# Altium schematic symbol library MF_Connectors.SCHLIB: 53 symbols
Pins are listed as number, name and electrical type; pins without a type are passive.

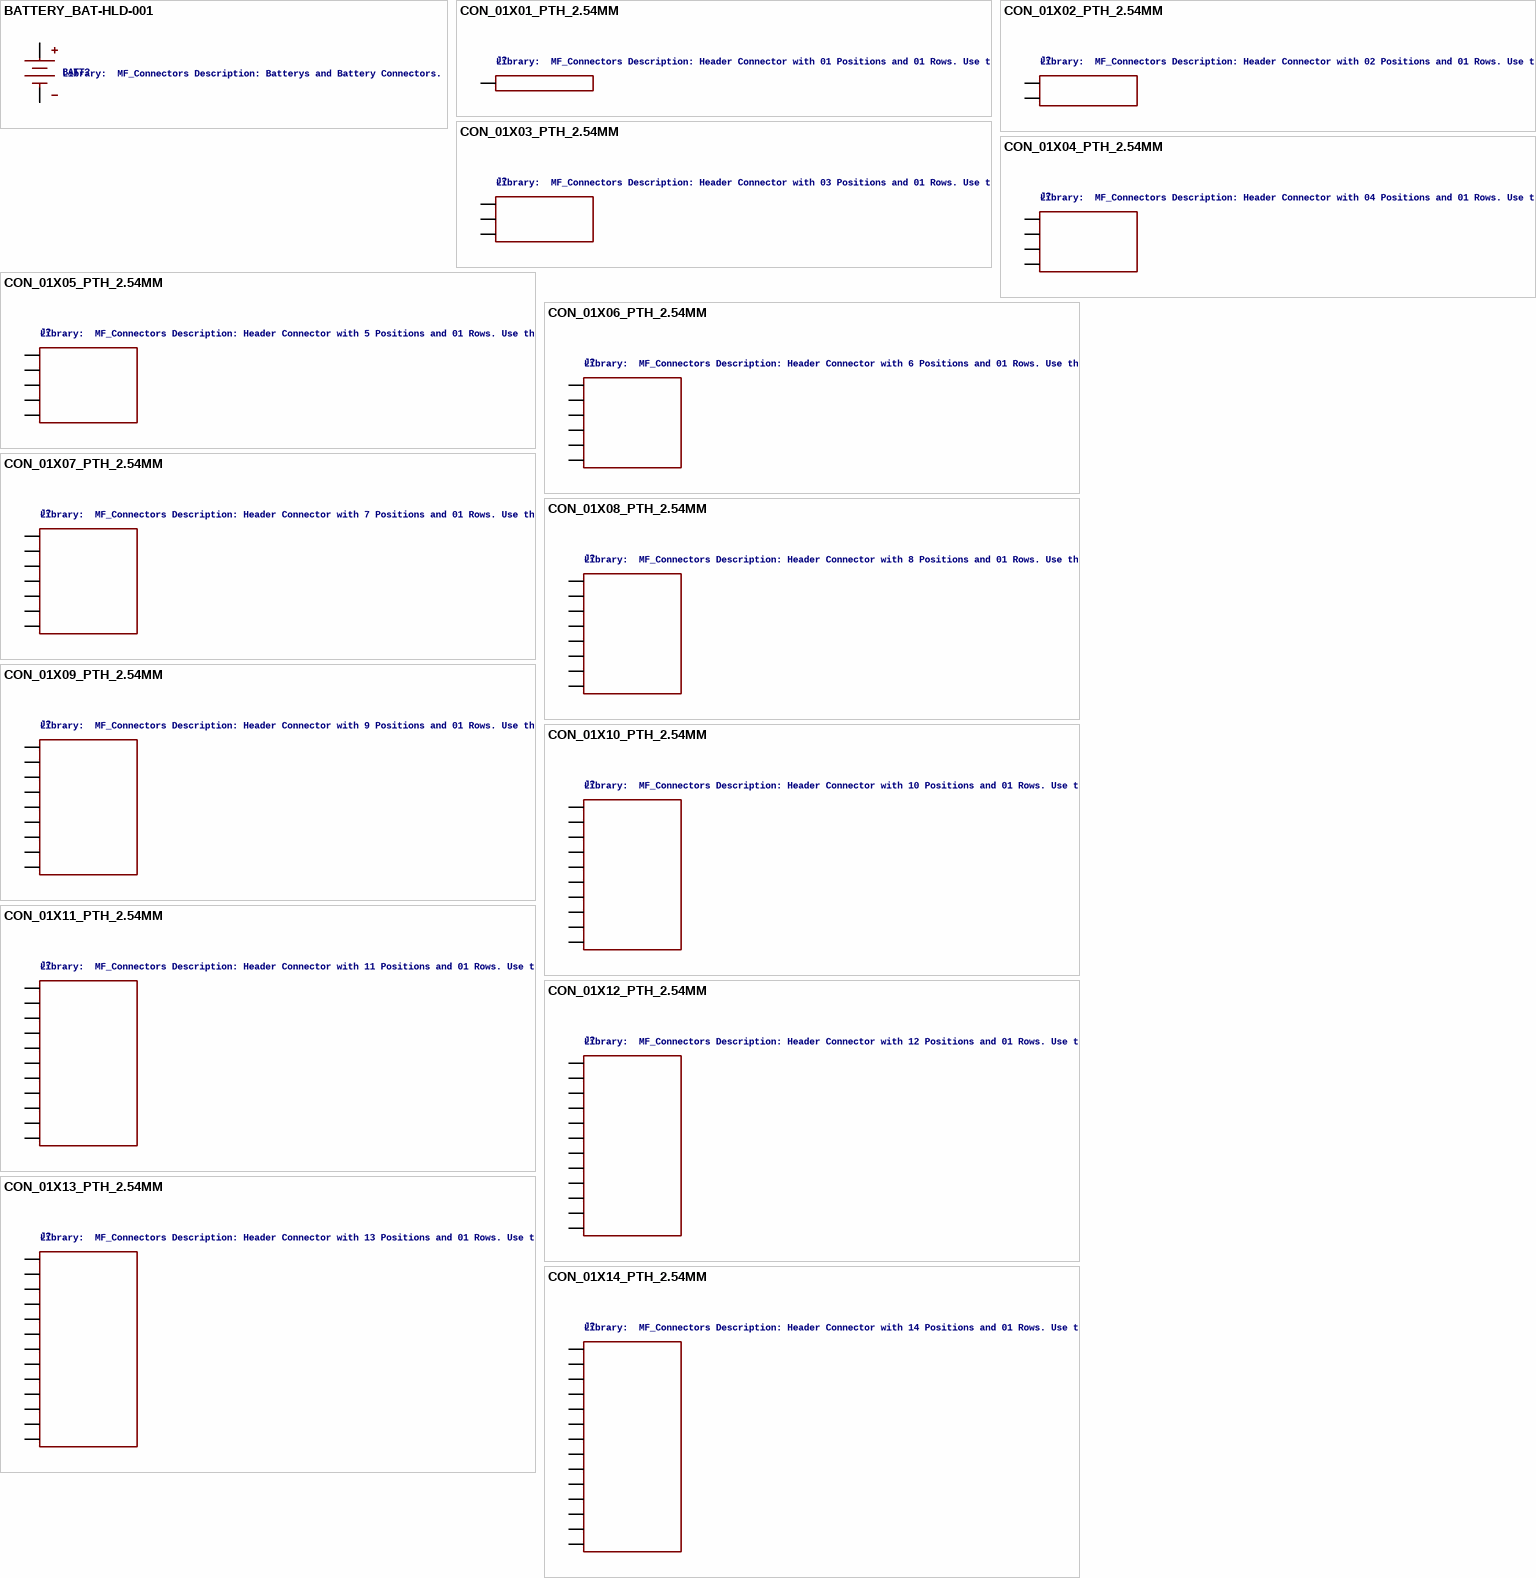
[diagram p0: symbols BATTERY_BAT-HLD-001 to CON_01X14_PTH_2.54MM]

## BATTERY_BAT-HLD-001
designator BATT?, comment Library:  MF_Connectors Description: Batterys and Battery Connectors.
HOUSEPART: NO; MPN: BAT-HLD-001; GateName_1: G$1; SymbolName_1: BATTERY_CONNECTION; DeviceName: _BAT-HLD-001; POPULATE: 1; LibraryName: MF_Connectors; DeviceSetName: BATTERY; URL: http://www.mouser.com/ds/2/238/bat-hld-001-220194.pdf
footprint BAT-HLD-001
pins: NEG_0 NEG, POS_0 POS_1 POS

## CON_01X01_PTH_2.54MM
designator J?, comment Library:  MF_Connectors Description: Header Connector with 01 Positions and 01 Rows. Use the LABEL Attribute to label the pin on the schematic and PCB. You can remove the attributes on the PCB by using the SMASH function on the part and then deleting the text.
HOUSEPART: YES; MPN: MF-CON-2.54mm-01x01; GateName_1: G$1; SymbolName_1: CON_01X01; DeviceName: _PTH_2.54MM; POPULATE: 1; LibraryName: MF_Connectors; DeviceSetName: CON_01X01; URL: https://factory.macrofab.com/part/MF-CON-2.54mm-01x01
footprint PTH_2.54MM_01X01
pins: P$1 PIN1

## CON_01X02_PTH_2.54MM
designator J?, comment Library:  MF_Connectors Description: Header Connector with 02 Positions and 01 Rows. Use the LABEL Attribute to label the pin on the schematic and PCB. You can remove the attributes on the PCB by using the SMASH function on the part and then deleting the text.
HOUSEPART: YES; MPN: MF-CON-2.54mm-01x02; GateName_1: G$1; SymbolName_1: CON_01X02; DeviceName: _PTH_2.54MM; POPULATE: 1; LibraryName: MF_Connectors; DeviceSetName: CON_01X02; URL: https://factory.macrofab.com/part/MF-CON-2.54mm-01x02
footprint PTH_2.54MM_01X02
pins: P$1 PIN1, P$2 PIN2

## CON_01X03_PTH_2.54MM
designator J?, comment Library:  MF_Connectors Description: Header Connector with 03 Positions and 01 Rows. Use the LABEL Attribute to label the pin on the schematic and PCB. You can remove the attributes on the PCB by using the SMASH function on the part and then deleting the text.
HOUSEPART: YES; MPN: MF-CON-2.54mm-01x03; GateName_1: G$1; SymbolName_1: CON_01X03; DeviceName: _PTH_2.54MM; POPULATE: 1; LibraryName: MF_Connectors; DeviceSetName: CON_01X03; URL: https://factory.macrofab.com/part/MF-CON-2.54mm-01x03
footprint PTH_2.54MM_01X03
pins: P$1 PIN1, P$2 PIN2, P$3 PIN3

## CON_01X04_PTH_2.54MM
designator J?, comment Library:  MF_Connectors Description: Header Connector with 04 Positions and 01 Rows. Use the LABEL Attribute to label the pin on the schematic and PCB. You can remove the attributes on the PCB by using the SMASH function on the part and then deleting the text.
HOUSEPART: YES; MPN: MF-CON-2.54mm-01x04; GateName_1: G$1; SymbolName_1: CON_01X04; DeviceName: _PTH_2.54MM; POPULATE: 1; LibraryName: MF_Connectors; DeviceSetName: CON_01X04; URL: https://factory.macrofab.com/part/MF-CON-2.54mm-01x04
footprint PTH_2.54MM_01X04
pins: P$1 PIN1, P$2 PIN2, P$3 PIN3, P$4 PIN4

## CON_01X05_PTH_2.54MM
designator J?, comment Library:  MF_Connectors Description: Header Connector with 5 Positions and 01 Rows. Use the LABEL Attribute to label the pin on the schematic and PCB. You can remove the attributes on the PCB by using the SMASH function on the part and then deleting the text.
HOUSEPART: YES; MPN: MF-CON-2.54mm-01x05; GateName_1: G$1; SymbolName_1: CON_01X05; DeviceName: _PTH_2.54MM; POPULATE: 1; LibraryName: MF_Connectors; DeviceSetName: CON_01X05; URL: https://factory.macrofab.com/part/MF-CON-2.54mm-01x05
footprint PTH_2.54MM_01X05
pins: P$1 PIN1, P$2 PIN2, P$3 PIN3, P$4 PIN4, P$5 PIN5

## CON_01X06_PTH_2.54MM
designator J?, comment Library:  MF_Connectors Description: Header Connector with 6 Positions and 01 Rows. Use the LABEL Attribute to label the pin on the schematic and PCB. You can remove the attributes on the PCB by using the SMASH function on the part and then deleting the text.
HOUSEPART: YES; MPN: MF-CON-2.54mm-01x06; GateName_1: G$1; SymbolName_1: CON_01X06; DeviceName: _PTH_2.54MM; POPULATE: 1; LibraryName: MF_Connectors; DeviceSetName: CON_01X06; URL: https://factory.macrofab.com/part/MF-CON-2.54mm-01x06
footprint PTH_2.54MM_01X06
pins: P$1 PIN1, P$2 PIN2, P$3 PIN3, P$4 PIN4, P$5 PIN5, P$6 PIN6

## CON_01X07_PTH_2.54MM
designator J?, comment Library:  MF_Connectors Description: Header Connector with 7 Positions and 01 Rows. Use the LABEL Attribute to label the pin on the schematic and PCB. You can remove the attributes on the PCB by using the SMASH function on the part and then deleting the text.
HOUSEPART: YES; MPN: MF-CON-2.54mm-01x07; GateName_1: G$1; SymbolName_1: CON_01X07; DeviceName: _PTH_2.54MM; POPULATE: 1; LibraryName: MF_Connectors; DeviceSetName: CON_01X07; URL: https://factory.macrofab.com/part/MF-CON-2.54mm-01x07
footprint PTH_2.54MM_01X07
pins: P$1 PIN1, P$2 PIN2, P$3 PIN3, P$4 PIN4, P$5 PIN5, P$6 PIN6, P$7 PIN7

## CON_01X08_PTH_2.54MM
designator J?, comment Library:  MF_Connectors Description: Header Connector with 8 Positions and 01 Rows. Use the LABEL Attribute to label the pin on the schematic and PCB. You can remove the attributes on the PCB by using the SMASH function on the part and then deleting the text.
HOUSEPART: YES; MPN: MF-CON-2.54mm-01x08; GateName_1: G$1; SymbolName_1: CON_01X08; DeviceName: _PTH_2.54MM; POPULATE: 1; LibraryName: MF_Connectors; DeviceSetName: CON_01X08; URL: https://factory.macrofab.com/part/MF-CON-2.54mm-01x08
footprint PTH_2.54MM_01X08
pins: P$1 PIN1, P$2 PIN2, P$3 PIN3, P$4 PIN4, P$5 PIN5, P$6 PIN6, P$7 PIN7, P$8 PIN8

## CON_01X09_PTH_2.54MM
designator J?, comment Library:  MF_Connectors Description: Header Connector with 9 Positions and 01 Rows. Use the LABEL Attribute to label the pin on the schematic and PCB. You can remove the attributes on the PCB by using the SMASH function on the part and then deleting the text.
HOUSEPART: YES; MPN: MF-CON-2.54mm-01x09; GateName_1: G$1; SymbolName_1: CON_01X09; DeviceName: _PTH_2.54MM; POPULATE: 1; LibraryName: MF_Connectors; DeviceSetName: CON_01X09; URL: https://factory.macrofab.com/part/MF-CON-2.54mm-01x09
footprint PTH_2.54MM_01X09
pins: P$1 PIN1, P$2 PIN2, P$3 PIN3, P$4 PIN4, P$5 PIN5, P$6 PIN6, P$7 PIN7, P$8 PIN8, P$9 PIN9

## CON_01X10_PTH_2.54MM
designator J?, comment Library:  MF_Connectors Description: Header Connector with 10 Positions and 01 Rows. Use the LABEL Attribute to label the pin on the schematic and PCB. You can remove the attributes on the PCB by using the SMASH function on the part and then deleting the text.
HOUSEPART: YES; MPN: MF-CON-2.54mm-01x10; GateName_1: G$1; SymbolName_1: CON_01X10; DeviceName: _PTH_2.54MM; POPULATE: 1; LibraryName: MF_Connectors; DeviceSetName: CON_01X10; URL: https://factory.macrofab.com/part/MF-CON-2.54mm-01x10
footprint PTH_2.54MM_01X10
pins: P$1 PIN1, P$2 PIN2, P$3 PIN3, P$4 PIN4, P$5 PIN5, P$6 PIN6, P$7 PIN7, P$8 PIN8, P$9 PIN9, P$10 PIN10

## CON_01X11_PTH_2.54MM
designator J?, comment Library:  MF_Connectors Description: Header Connector with 11 Positions and 01 Rows. Use the LABEL Attribute to label the pin on the schematic and PCB. You can remove the attributes on the PCB by using the SMASH function on the part and then deleting the text.
HOUSEPART: YES; MPN: MF-CON-2.54mm-01x11; GateName_1: G$1; SymbolName_1: CON_01X11; DeviceName: _PTH_2.54MM; POPULATE: 1; LibraryName: MF_Connectors; DeviceSetName: CON_01X11; URL: https://factory.macrofab.com/part/MF-CON-2.54mm-01x11
footprint PTH_2.54MM_01X11
pins: P$1 PIN1, P$2 PIN2, P$3 PIN3, P$4 PIN4, P$5 PIN5, P$6 PIN6, P$7 PIN7, P$8 PIN8, P$9 PIN9, P$10 PIN10, P$11 PIN11

## CON_01X12_PTH_2.54MM
designator J?, comment Library:  MF_Connectors Description: Header Connector with 12 Positions and 01 Rows. Use the LABEL Attribute to label the pin on the schematic and PCB. You can remove the attributes on the PCB by using the SMASH function on the part and then deleting the text.
HOUSEPART: YES; MPN: MF-CON-2.54mm-01x12; GateName_1: G$1; SymbolName_1: CON_01X12; DeviceName: _PTH_2.54MM; POPULATE: 1; LibraryName: MF_Connectors; DeviceSetName: CON_01X12; URL: https://factory.macrofab.com/part/MF-CON-2.54mm-01x12
footprint PTH_2.54MM_01X12
pins: P$1 PIN1, P$2 PIN2, P$3 PIN3, P$4 PIN4, P$5 PIN5, P$6 PIN6, P$7 PIN7, P$8 PIN8, P$9 PIN9, P$10 PIN10, P$11 PIN11, P$12 PIN12

## CON_01X13_PTH_2.54MM
designator J?, comment Library:  MF_Connectors Description: Header Connector with 13 Positions and 01 Rows. Use the LABEL Attribute to label the pin on the schematic and PCB. You can remove the attributes on the PCB by using the SMASH function on the part and then deleting the text.
HOUSEPART: YES; MPN: MF-CON-2.54mm-01x13; GateName_1: G$1; SymbolName_1: CON_01X13; DeviceName: _PTH_2.54MM; POPULATE: 1; LibraryName: MF_Connectors; DeviceSetName: CON_01X13; URL: https://factory.macrofab.com/part/MF-CON-2.54mm-01x13
footprint PTH_2.54MM_01X13
pins: P$1 PIN1, P$2 PIN2, P$3 PIN3, P$4 PIN4, P$5 PIN5, P$6 PIN6, P$7 PIN7, P$8 PIN8, P$9 PIN9, P$10 PIN10, P$11 PIN11, P$12 PIN12, P$13 PIN13

## CON_01X14_PTH_2.54MM
designator J?, comment Library:  MF_Connectors Description: Header Connector with 14 Positions and 01 Rows. Use the LABEL Attribute to label the pin on the schematic and PCB. You can remove the attributes on the PCB by using the SMASH function on the part and then deleting the text.
HOUSEPART: YES; MPN: MF-CON-2.54mm-01x14; GateName_1: G$1; SymbolName_1: CON_01X14; DeviceName: _PTH_2.54MM; POPULATE: 1; LibraryName: MF_Connectors; DeviceSetName: CON_01X14; URL: https://factory.macrofab.com/part/MF-CON-2.54mm-01x14
footprint PTH_2.54MM_01X14
pins: P$1 PIN1, P$2 PIN2, P$3 PIN3, P$4 PIN4, P$5 PIN5, P$6 PIN6, P$7 PIN7, P$8 PIN8, P$9 PIN9, P$10 PIN10, P$11 PIN11, P$12 PIN12, P$13 PIN13, P$14 PIN14

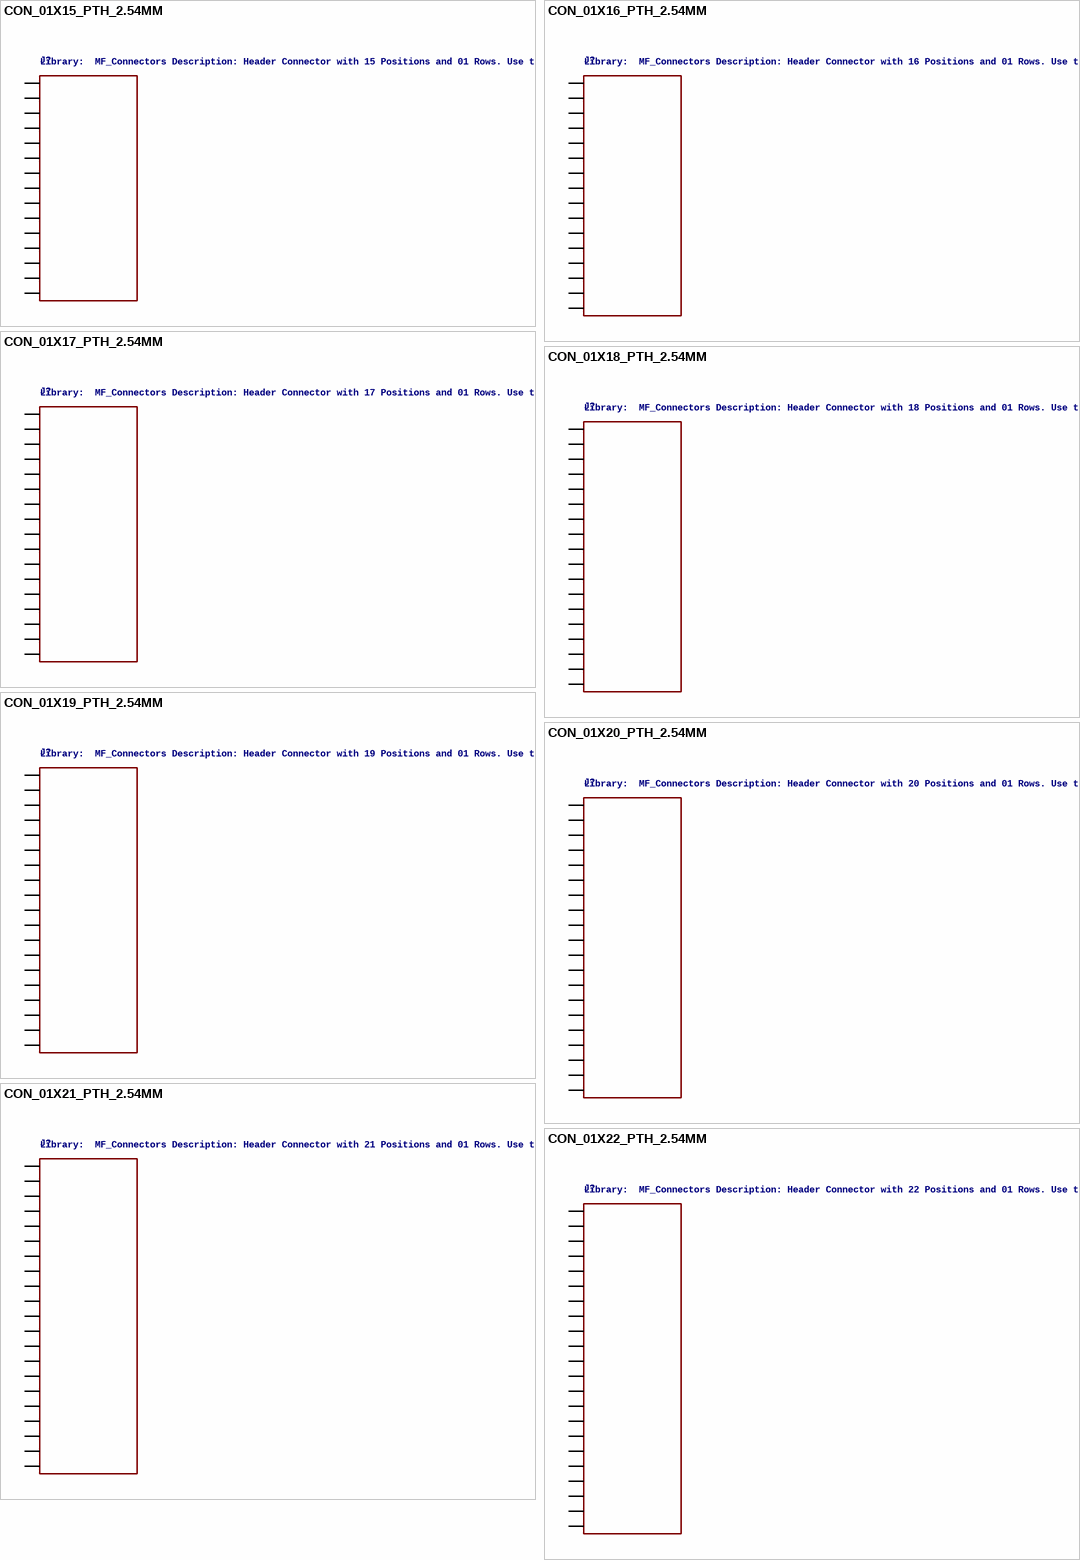
[diagram p1: symbols CON_01X15_PTH_2.54MM to CON_01X22_PTH_2.54MM]

## CON_01X15_PTH_2.54MM
designator J?, comment Library:  MF_Connectors Description: Header Connector with 15 Positions and 01 Rows. Use the LABEL Attribute to label the pin on the schematic and PCB. You can remove the attributes on the PCB by using the SMASH function on the part and then deleting the text.
HOUSEPART: YES; MPN: MF-CON-2.54mm-01x15; GateName_1: G$1; SymbolName_1: CON_01X15; DeviceName: _PTH_2.54MM; POPULATE: 1; LibraryName: MF_Connectors; DeviceSetName: CON_01X15; URL: https://factory.macrofab.com/part/MF-CON-2.54mm-01x15
footprint PTH_2.54MM_01X15
pins: P$1 PIN1, P$2 PIN2, P$3 PIN3, P$4 PIN4, P$5 PIN5, P$6 PIN6, P$7 PIN7, P$8 PIN8, P$9 PIN9, P$10 PIN10, P$11 PIN11, P$12 PIN12, P$13 PIN13, P$14 PIN14, P$15 PIN15

## CON_01X16_PTH_2.54MM
designator J?, comment Library:  MF_Connectors Description: Header Connector with 16 Positions and 01 Rows. Use the LABEL Attribute to label the pin on the schematic and PCB. You can remove the attributes on the PCB by using the SMASH function on the part and then deleting the text.
HOUSEPART: YES; MPN: MF-CON-2.54mm-01x16; GateName_1: G$1; SymbolName_1: CON_01X16; DeviceName: _PTH_2.54MM; POPULATE: 1; LibraryName: MF_Connectors; DeviceSetName: CON_01X16; URL: https://factory.macrofab.com/part/MF-CON-2.54mm-01x17
footprint PTH_2.54MM_01X16
pins: P$1 PIN1, P$2 PIN2, P$3 PIN3, P$4 PIN4, P$5 PIN5, P$6 PIN6, P$7 PIN7, P$8 PIN8, P$9 PIN9, P$10 PIN10, P$11 PIN11, P$12 PIN12, P$13 PIN13, P$14 PIN14, P$15 PIN15, P$16 PIN16

## CON_01X17_PTH_2.54MM
designator J?, comment Library:  MF_Connectors Description: Header Connector with 17 Positions and 01 Rows. Use the LABEL Attribute to label the pin on the schematic and PCB. You can remove the attributes on the PCB by using the SMASH function on the part and then deleting the text.
HOUSEPART: YES; MPN: MF-CON-2.54mm-01x17; GateName_1: G$1; SymbolName_1: CON_01X17; DeviceName: _PTH_2.54MM; POPULATE: 1; LibraryName: MF_Connectors; DeviceSetName: CON_01X17; URL: https://factory.macrofab.com/part/MF-CON-2.54mm-01x17
footprint PTH_2.54MM_01X17
pins: P$1 PIN1, P$2 PIN2, P$3 PIN3, P$4 PIN4, P$5 PIN5, P$6 PIN6, P$7 PIN7, P$8 PIN8, P$9 PIN9, P$10 PIN10, P$11 PIN11, P$12 PIN12, P$13 PIN13, P$14 PIN14, P$15 PIN15, P$16 PIN16, P$17 PIN17

## CON_01X18_PTH_2.54MM
designator J?, comment Library:  MF_Connectors Description: Header Connector with 18 Positions and 01 Rows. Use the LABEL Attribute to label the pin on the schematic and PCB. You can remove the attributes on the PCB by using the SMASH function on the part and then deleting the text.
HOUSEPART: YES; MPN: MF-CON-2.54mm-01x18; GateName_1: G$1; SymbolName_1: CON_01X18; DeviceName: _PTH_2.54MM; POPULATE: 1; LibraryName: MF_Connectors; DeviceSetName: CON_01X18; URL: https://factory.macrofab.com/part/MF-CON-2.54mm-01x18
footprint PTH_2.54MM_01X18
pins: P$1 PIN1, P$2 PIN2, P$3 PIN3, P$4 PIN4, P$5 PIN5, P$6 PIN6, P$7 PIN7, P$8 PIN8, P$9 PIN9, P$10 PIN10, P$11 PIN11, P$12 PIN12, P$13 PIN13, P$14 PIN14, P$15 PIN15, P$16 PIN16, P$17 PIN17, P$18 PIN18

## CON_01X19_PTH_2.54MM
designator J?, comment Library:  MF_Connectors Description: Header Connector with 19 Positions and 01 Rows. Use the LABEL Attribute to label the pin on the schematic and PCB. You can remove the attributes on the PCB by using the SMASH function on the part and then deleting the text.
HOUSEPART: YES; MPN: MF-CON-2.54mm-01x19; GateName_1: G$1; SymbolName_1: CON_01X19; DeviceName: _PTH_2.54MM; POPULATE: 1; LibraryName: MF_Connectors; DeviceSetName: CON_01X19; URL: URL: https://factory.macrofab.com/part/MF-CON-2.54mm-01x19
footprint PTH_2.54MM_01X19
pins: P$1 PIN1, P$2 PIN2, P$3 PIN3, P$4 PIN4, P$5 PIN5, P$6 PIN6, P$7 PIN7, P$8 PIN8, P$9 PIN9, P$10 PIN10, P$11 PIN11, P$12 PIN12, P$13 PIN13, P$14 PIN14, P$15 PIN15, P$16 PIN16, P$17 PIN17, P$18 PIN18, P$19 PIN19

## CON_01X20_PTH_2.54MM
designator J?, comment Library:  MF_Connectors Description: Header Connector with 20 Positions and 01 Rows. Use the LABEL Attribute to label the pin on the schematic and PCB. You can remove the attributes on the PCB by using the SMASH function on the part and then deleting the text.
HOUSEPART: YES; MPN: MF-CON-2.54mm-01x20; GateName_1: G$1; SymbolName_1: CON_01X20; DeviceName: _PTH_2.54MM; POPULATE: 1; LibraryName: MF_Connectors; DeviceSetName: CON_01X20; URL: https://factory.macrofab.com/part/MF-CON-2.54mm-01x20
footprint PTH_2.54MM_01X20
pins: P$1 PIN1, P$2 PIN2, P$3 PIN3, P$4 PIN4, P$5 PIN5, P$6 PIN6, P$7 PIN7, P$8 PIN8, P$9 PIN9, P$10 PIN10, P$11 PIN11, P$12 PIN12, P$13 PIN13, P$14 PIN14, P$15 PIN15, P$16 PIN16, P$17 PIN17, P$18 PIN18, P$19 PIN19, P$20 PIN20

## CON_01X21_PTH_2.54MM
designator J?, comment Library:  MF_Connectors Description: Header Connector with 21 Positions and 01 Rows. Use the LABEL Attribute to label the pin on the schematic and PCB. You can remove the attributes on the PCB by using the SMASH function on the part and then deleting the text.
HOUSEPART: YES; MPN: MF-CON-2.54mm-01x21; GateName_1: G$1; SymbolName_1: CON_01X21; DeviceName: _PTH_2.54MM; POPULATE: 1; LibraryName: MF_Connectors; DeviceSetName: CON_01X21; URL: https://factory.macrofab.com/part/MF-CON-2.54mm-01x21
footprint PTH_2.54MM_01X21
pins: P$1 PIN1, P$2 PIN2, P$3 PIN3, P$4 PIN4, P$5 PIN5, P$6 PIN6, P$7 PIN7, P$8 PIN8, P$9 PIN9, P$10 PIN10, P$11 PIN11, P$12 PIN12, P$13 PIN13, P$14 PIN14, P$15 PIN15, P$16 PIN16, P$17 PIN17, P$18 PIN18, P$19 PIN19, P$20 PIN20, P$21 PIN21

## CON_01X22_PTH_2.54MM
designator J?, comment Library:  MF_Connectors Description: Header Connector with 22 Positions and 01 Rows. Use the LABEL Attribute to label the pin on the schematic and PCB. You can remove the attributes on the PCB by using the SMASH function on the part and then deleting the text.
HOUSEPART: YES; MPN: MF-CON-2.54mm-01x22; GateName_1: G$1; SymbolName_1: CON_01X22; DeviceName: _PTH_2.54MM; POPULATE: 1; LibraryName: MF_Connectors; DeviceSetName: CON_01X22; URL: https://factory.macrofab.com/part/MF-CON-2.54mm-01x22
footprint PTH_2.54MM_01X22
pins: P$1 PIN1, P$2 PIN2, P$3 PIN3, P$4 PIN4, P$5 PIN5, P$6 PIN6, P$7 PIN7, P$8 PIN8, P$9 PIN9, P$10 PIN10, P$11 PIN11, P$12 PIN12, P$13 PIN13, P$14 PIN14, P$15 PIN15, P$16 PIN16, P$17 PIN17, P$18 PIN18, P$19 PIN19, P$20 PIN20, P$21 PIN21, P$22 PIN22

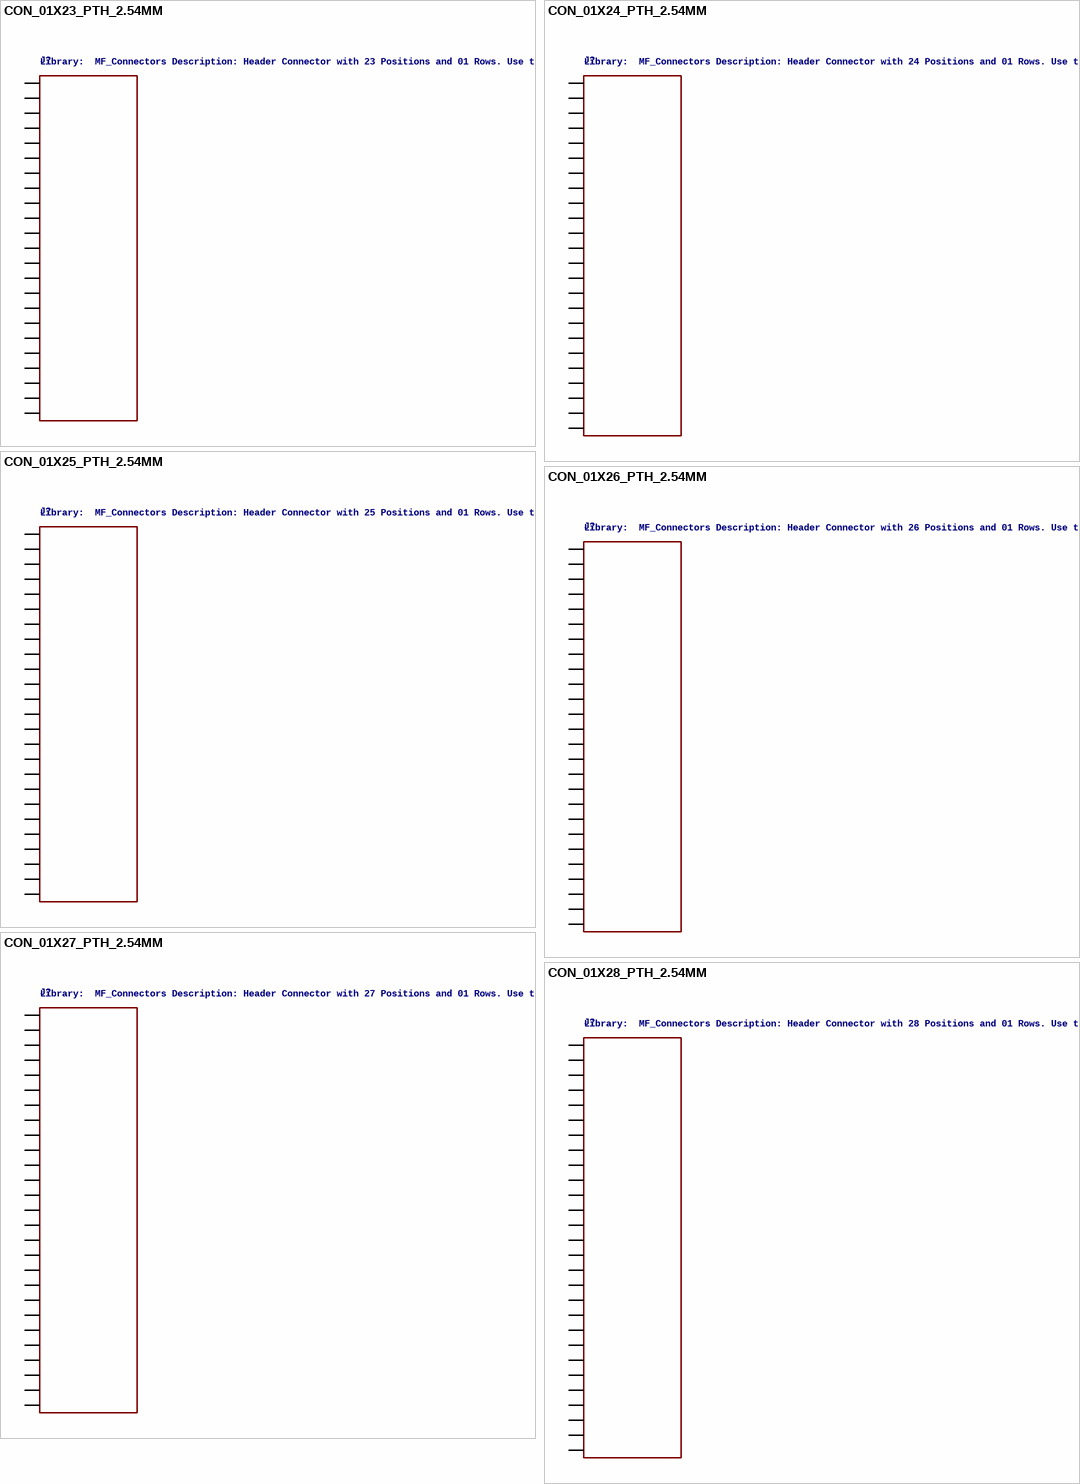
[diagram p2: symbols CON_01X23_PTH_2.54MM to CON_01X28_PTH_2.54MM]

## CON_01X23_PTH_2.54MM
designator J?, comment Library:  MF_Connectors Description: Header Connector with 23 Positions and 01 Rows. Use the LABEL Attribute to label the pin on the schematic and PCB. You can remove the attributes on the PCB by using the SMASH function on the part and then deleting the text.
HOUSEPART: YES; MPN: MF-CON-2.54mm-01x23; GateName_1: G$1; SymbolName_1: CON_01X23; DeviceName: _PTH_2.54MM; POPULATE: 1; LibraryName: MF_Connectors; DeviceSetName: CON_01X23; URL: https://factory.macrofab.com/part/MF-CON-2.54mm-01x23
footprint PTH_2.54MM_01X23
pins: P$1 PIN1, P$2 PIN2, P$3 PIN3, P$4 PIN4, P$5 PIN5, P$6 PIN6, P$7 PIN7, P$8 PIN8, P$9 PIN9, P$10 PIN10, P$11 PIN11, P$12 PIN12, P$13 PIN13, P$14 PIN14, P$15 PIN15, P$16 PIN16, P$17 PIN17, P$18 PIN18, P$19 PIN19, P$20 PIN20, P$21 PIN21, P$22 PIN22, P$23 PIN23

## CON_01X24_PTH_2.54MM
designator J?, comment Library:  MF_Connectors Description: Header Connector with 24 Positions and 01 Rows. Use the LABEL Attribute to label the pin on the schematic and PCB. You can remove the attributes on the PCB by using the SMASH function on the part and then deleting the text.
HOUSEPART: YES; MPN: MF-CON-2.54mm-01x24; GateName_1: G$1; SymbolName_1: CON_01X24; DeviceName: _PTH_2.54MM; POPULATE: 1; LibraryName: MF_Connectors; DeviceSetName: CON_01X24; URL: https://factory.macrofab.com/part/MF-CON-2.54mm-01x24
footprint PTH_2.54MM_01X24
pins: P$1 PIN1, P$2 PIN2, P$3 PIN3, P$4 PIN4, P$5 PIN5, P$6 PIN6, P$7 PIN7, P$8 PIN8, P$9 PIN9, P$10 PIN10, P$11 PIN11, P$12 PIN12, P$13 PIN13, P$14 PIN14, P$15 PIN15, P$16 PIN16, P$17 PIN17, P$18 PIN18, P$19 PIN19, P$20 PIN20, P$21 PIN21, P$22 PIN22, P$23 PIN23, P$24 PIN24

## CON_01X25_PTH_2.54MM
designator J?, comment Library:  MF_Connectors Description: Header Connector with 25 Positions and 01 Rows. Use the LABEL Attribute to label the pin on the schematic and PCB. You can remove the attributes on the PCB by using the SMASH function on the part and then deleting the text.
HOUSEPART: YES; MPN: MF-CON-2.54mm-01x25; GateName_1: G$1; SymbolName_1: CON_01X25; DeviceName: _PTH_2.54MM; POPULATE: 1; LibraryName: MF_Connectors; DeviceSetName: CON_01X25; URL: https://factory.macrofab.com/part/MF-CON-2.54mm-01x25
footprint PTH_2.54MM_01X25
pins: P$1 PIN1, P$2 PIN2, P$3 PIN3, P$4 PIN4, P$5 PIN5, P$6 PIN6, P$7 PIN7, P$8 PIN8, P$9 PIN9, P$10 PIN10, P$11 PIN11, P$12 PIN12, P$13 PIN13, P$14 PIN14, P$15 PIN15, P$16 PIN16, P$17 PIN17, P$18 PIN18, P$19 PIN19, P$20 PIN20, P$21 PIN21, P$22 PIN22, P$23 PIN23, P$24 PIN24, P$25 PIN25

## CON_01X26_PTH_2.54MM
designator J?, comment Library:  MF_Connectors Description: Header Connector with 26 Positions and 01 Rows. Use the LABEL Attribute to label the pin on the schematic and PCB. You can remove the attributes on the PCB by using the SMASH function on the part and then deleting the text.
HOUSEPART: YES; MPN: MF-CON-2.54mm-01x26; GateName_1: G$1; SymbolName_1: CON_01X26; DeviceName: _PTH_2.54MM; POPULATE: 1; LibraryName: MF_Connectors; DeviceSetName: CON_01X26; URL: https://factory.macrofab.com/part/MF-CON-2.54mm-01x26
footprint PTH_2.54MM_01X26
pins: P$1 PIN1, P$2 PIN2, P$3 PIN3, P$4 PIN4, P$5 PIN5, P$6 PIN6, P$7 PIN7, P$8 PIN8, P$9 PIN9, P$10 PIN10, P$11 PIN11, P$12 PIN12, P$13 PIN13, P$14 PIN14, P$15 PIN15, P$16 PIN16, P$17 PIN17, P$18 PIN18, P$19 PIN19, P$20 PIN20, P$21 PIN21, P$22 PIN22, P$23 PIN23, P$24 PIN24, P$25 PIN25, P$26 PIN26

## CON_01X27_PTH_2.54MM
designator J?, comment Library:  MF_Connectors Description: Header Connector with 27 Positions and 01 Rows. Use the LABEL Attribute to label the pin on the schematic and PCB. You can remove the attributes on the PCB by using the SMASH function on the part and then deleting the text.
HOUSEPART: YES; MPN: MF-CON-2.54mm-01x27; GateName_1: G$1; SymbolName_1: CON_01X27; DeviceName: _PTH_2.54MM; POPULATE: 1; LibraryName: MF_Connectors; DeviceSetName: CON_01X27; URL: https://factory.macrofab.com/part/MF-CON-2.54mm-01x27
footprint PTH_2.54MM_01X27
pins: P$1 PIN1, P$2 PIN2, P$3 PIN3, P$4 PIN4, P$5 PIN5, P$6 PIN6, P$7 PIN7, P$8 PIN8, P$9 PIN9, P$10 PIN10, P$11 PIN11, P$12 PIN12, P$13 PIN13, P$14 PIN14, P$15 PIN15, P$16 PIN16, P$17 PIN17, P$18 PIN18, P$19 PIN19, P$20 PIN20, P$21 PIN21, P$22 PIN22, P$23 PIN23, P$24 PIN24, P$25 PIN25, P$26 PIN26, P$27 PIN27

## CON_01X28_PTH_2.54MM
designator J?, comment Library:  MF_Connectors Description: Header Connector with 28 Positions and 01 Rows. Use the LABEL Attribute to label the pin on the schematic and PCB. You can remove the attributes on the PCB by using the SMASH function on the part and then deleting the text.
HOUSEPART: YES; MPN: MF-CON-2.54mm-01x28; GateName_1: G$1; SymbolName_1: CON_01X28; DeviceName: _PTH_2.54MM; POPULATE: 1; LibraryName: MF_Connectors; DeviceSetName: CON_01X28; URL: https://factory.macrofab.com/part/MF-CON-2.54mm-01x28
footprint PTH_2.54MM_01X28
pins: P$1 PIN1, P$2 PIN2, P$3 PIN3, P$4 PIN4, P$5 PIN5, P$6 PIN6, P$7 PIN7, P$8 PIN8, P$9 PIN9, P$10 PIN10, P$11 PIN11, P$12 PIN12, P$13 PIN13, P$14 PIN14, P$15 PIN15, P$16 PIN16, P$17 PIN17, P$18 PIN18, P$19 PIN19, P$20 PIN20, P$21 PIN21, P$22 PIN22, P$23 PIN23, P$24 PIN24, P$25 PIN25, P$26 PIN26, P$27 PIN27, P$28 PIN28

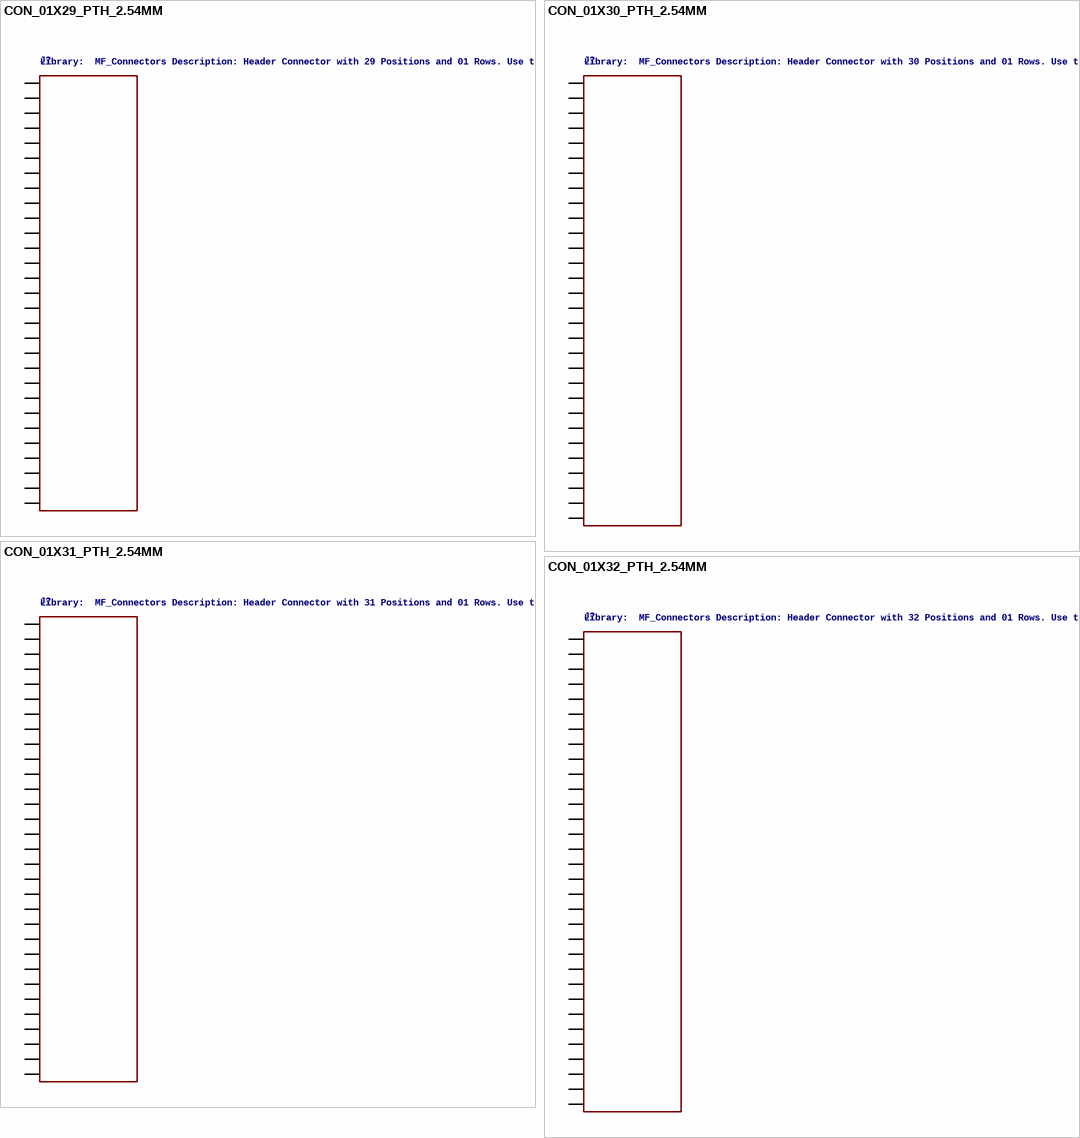
[diagram p3: symbols CON_01X29_PTH_2.54MM to CON_01X32_PTH_2.54MM]

## CON_01X29_PTH_2.54MM
designator J?, comment Library:  MF_Connectors Description: Header Connector with 29 Positions and 01 Rows. Use the LABEL Attribute to label the pin on the schematic and PCB. You can remove the attributes on the PCB by using the SMASH function on the part and then deleting the text.
HOUSEPART: YES; MPN: MF-CON-2.54mm-01x29; GateName_1: G$1; SymbolName_1: CON_01X29; DeviceName: _PTH_2.54MM; POPULATE: 1; LibraryName: MF_Connectors; DeviceSetName: CON_01X29; URL: https://factory.macrofab.com/part/MF-CON-2.54mm-01x29
footprint PTH_2.54MM_01X29
pins: P$1 PIN1, P$2 PIN2, P$3 PIN3, P$4 PIN4, P$5 PIN5, P$6 PIN6, P$7 PIN7, P$8 PIN8, P$9 PIN9, P$10 PIN10, P$11 PIN11, P$12 PIN12, P$13 PIN13, P$14 PIN14, P$15 PIN15, P$16 PIN16, P$17 PIN17, P$18 PIN18, P$19 PIN19, P$20 PIN20, P$21 PIN21, P$22 PIN22, P$23 PIN23, P$24 PIN24, P$25 PIN25, P$26 PIN26, P$27 PIN27, P$28 PIN28, P$29 PIN29

## CON_01X30_PTH_2.54MM
designator J?, comment Library:  MF_Connectors Description: Header Connector with 30 Positions and 01 Rows. Use the LABEL Attribute to label the pin on the schematic and PCB. You can remove the attributes on the PCB by using the SMASH function on the part and then deleting the text.
HOUSEPART: YES; MPN: MF-CON-2.54mm-01x30; GateName_1: G$1; SymbolName_1: CON_01X30; DeviceName: _PTH_2.54MM; POPULATE: 1; LibraryName: MF_Connectors; DeviceSetName: CON_01X30; URL: https://factory.macrofab.com/part/MF-CON-2.54mm-01x30
footprint PTH_2.54MM_01X30
pins: P$1 PIN1, P$2 PIN2, P$3 PIN3, P$4 PIN4, P$5 PIN5, P$6 PIN6, P$7 PIN7, P$8 PIN8, P$9 PIN9, P$10 PIN10, P$11 PIN11, P$12 PIN12, P$13 PIN13, P$14 PIN14, P$15 PIN15, P$16 PIN16, P$17 PIN17, P$18 PIN18, P$19 PIN19, P$20 PIN20, P$21 PIN21, P$22 PIN22, P$23 PIN23, P$24 PIN24, P$25 PIN25, P$26 PIN26, P$27 PIN27, P$28 PIN28, P$29 PIN29, P$30 PIN30

## CON_01X31_PTH_2.54MM
designator J?, comment Library:  MF_Connectors Description: Header Connector with 31 Positions and 01 Rows. Use the LABEL Attribute to label the pin on the schematic and PCB. You can remove the attributes on the PCB by using the SMASH function on the part and then deleting the text.
HOUSEPART: YES; MPN: MF-CON-2.54mm-01x31; GateName_1: G$1; SymbolName_1: CON_01X31; DeviceName: _PTH_2.54MM; POPULATE: 1; LibraryName: MF_Connectors; DeviceSetName: CON_01X31; URL: https://factory.macrofab.com/part/MF-CON-2.54mm-01x31
footprint PTH_2.54MM_01X31
pins: P$1 PIN1, P$2 PIN2, P$3 PIN3, P$4 PIN4, P$5 PIN5, P$6 PIN6, P$7 PIN7, P$8 PIN8, P$9 PIN9, P$10 PIN10, P$11 PIN11, P$12 PIN12, P$13 PIN13, P$14 PIN14, P$15 PIN15, P$16 PIN16, P$17 PIN17, P$18 PIN18, P$19 PIN19, P$20 PIN20, P$21 PIN21, P$22 PIN22, P$23 PIN23, P$24 PIN24, P$25 PIN25, P$26 PIN26, P$27 PIN27, P$28 PIN28, P$29 PIN29, P$30 PIN30, P$31 PIN31

## CON_01X32_PTH_2.54MM
designator J?, comment Library:  MF_Connectors Description: Header Connector with 32 Positions and 01 Rows. Use the LABEL Attribute to label the pin on the schematic and PCB. You can remove the attributes on the PCB by using the SMASH function on the part and then deleting the text.
HOUSEPART: YES; MPN: MF-CON-2.54mm-01x32; GateName_1: G$1; SymbolName_1: CON_01X32; DeviceName: _PTH_2.54MM; POPULATE: 1; LibraryName: MF_Connectors; DeviceSetName: CON_01X32; URL: https://factory.macrofab.com/part/MF-CON-2.54mm-01x32
footprint PTH_2.54MM_01X32
pins: P$1 PIN1, P$2 PIN2, P$3 PIN3, P$4 PIN4, P$5 PIN5, P$6 PIN6, P$7 PIN7, P$8 PIN8, P$9 PIN9, P$10 PIN10, P$11 PIN11, P$12 PIN12, P$13 PIN13, P$14 PIN14, P$15 PIN15, P$16 PIN16, P$17 PIN17, P$18 PIN18, P$19 PIN19, P$20 PIN20, P$21 PIN21, P$22 PIN22, P$23 PIN23, P$24 PIN24, P$25 PIN25, P$26 PIN26, P$27 PIN27, P$28 PIN28, P$29 PIN29, P$30 PIN30, P$31 PIN31, P$32 PIN32

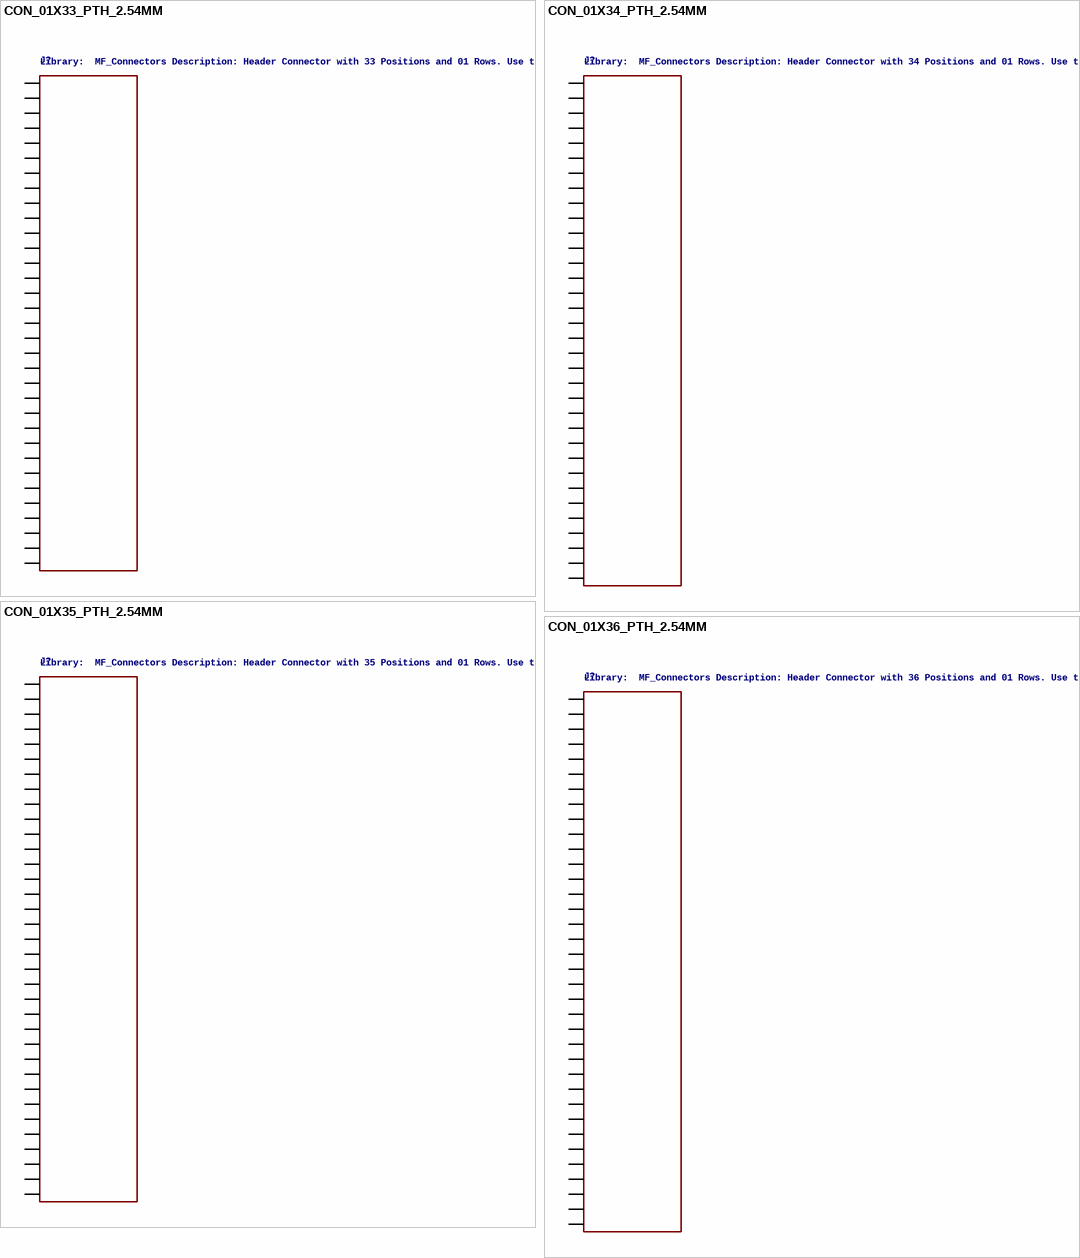
[diagram p4: symbols CON_01X33_PTH_2.54MM to CON_01X36_PTH_2.54MM]

## CON_01X33_PTH_2.54MM
designator J?, comment Library:  MF_Connectors Description: Header Connector with 33 Positions and 01 Rows. Use the LABEL Attribute to label the pin on the schematic and PCB. You can remove the attributes on the PCB by using the SMASH function on the part and then deleting the text.
HOUSEPART: YES; MPN: MF-CON-2.54mm-01x33; GateName_1: G$1; SymbolName_1: CON_01X33; DeviceName: _PTH_2.54MM; POPULATE: 1; LibraryName: MF_Connectors; DeviceSetName: CON_01X33; URL: https://factory.macrofab.com/part/MF-CON-2.54mm-01x33
footprint PTH_2.54MM_01X33
pins: P$1 PIN1, P$2 PIN2, P$3 PIN3, P$4 PIN4, P$5 PIN5, P$6 PIN6, P$7 PIN7, P$8 PIN8, P$9 PIN9, P$10 PIN10, P$11 PIN11, P$12 PIN12, P$13 PIN13, P$14 PIN14, P$15 PIN15, P$16 PIN16, P$17 PIN17, P$18 PIN18, P$19 PIN19, P$20 PIN20, P$21 PIN21, P$22 PIN22, P$23 PIN23, P$24 PIN24, P$25 PIN25, P$26 PIN26, P$27 PIN27, P$28 PIN28, P$29 PIN29, P$30 PIN30, P$31 PIN31, P$32 PIN32, P$33 PIN33

## CON_01X34_PTH_2.54MM
designator J?, comment Library:  MF_Connectors Description: Header Connector with 34 Positions and 01 Rows. Use the LABEL Attribute to label the pin on the schematic and PCB. You can remove the attributes on the PCB by using the SMASH function on the part and then deleting the text.
HOUSEPART: YES; MPN: MF-CON-2.54mm-01x34; GateName_1: G$1; SymbolName_1: CON_01X34; DeviceName: _PTH_2.54MM; POPULATE: 1; LibraryName: MF_Connectors; DeviceSetName: CON_01X34; URL: https://factory.macrofab.com/part/MF-CON-2.54mm-01x34
footprint PTH_2.54MM_01X34
pins: P$1 PIN1, P$2 PIN2, P$3 PIN3, P$4 PIN4, P$5 PIN5, P$6 PIN6, P$7 PIN7, P$8 PIN8, P$9 PIN9, P$10 PIN10, P$11 PIN11, P$12 PIN12, P$13 PIN13, P$14 PIN14, P$15 PIN15, P$16 PIN16, P$17 PIN17, P$18 PIN18, P$19 PIN19, P$20 PIN20, P$21 PIN21, P$22 PIN22, P$23 PIN23, P$24 PIN24, P$25 PIN25, P$26 PIN26, P$27 PIN27, P$28 PIN28, P$29 PIN29, P$30 PIN30, P$31 PIN31, P$32 PIN32, P$33 PIN33, P$34 PIN34

## CON_01X35_PTH_2.54MM
designator J?, comment Library:  MF_Connectors Description: Header Connector with 35 Positions and 01 Rows. Use the LABEL Attribute to label the pin on the schematic and PCB. You can remove the attributes on the PCB by using the SMASH function on the part and then deleting the text.
HOUSEPART: YES; MPN: MF-CON-2.54mm-01x35; GateName_1: G$1; SymbolName_1: CON_01X35; DeviceName: _PTH_2.54MM; POPULATE: 1; LibraryName: MF_Connectors; DeviceSetName: CON_01X35; URL: https://factory.macrofab.com/part/MF-CON-2.54mm-01x35
footprint PTH_2.54MM_01X35
pins: P$1 PIN1, P$2 PIN2, P$3 PIN3, P$4 PIN4, P$5 PIN5, P$6 PIN6, P$7 PIN7, P$8 PIN8, P$9 PIN9, P$10 PIN10, P$11 PIN11, P$12 PIN12, P$13 PIN13, P$14 PIN14, P$15 PIN15, P$16 PIN16, P$17 PIN17, P$18 PIN18, P$19 PIN19, P$20 PIN20, P$21 PIN21, P$22 PIN22, P$23 PIN23, P$24 PIN24, P$25 PIN25, P$26 PIN26, P$27 PIN27, P$28 PIN28, P$29 PIN29, P$30 PIN30, P$31 PIN31, P$32 PIN32, P$33 PIN33, P$34 PIN34, P$35 PIN35

## CON_01X36_PTH_2.54MM
designator J?, comment Library:  MF_Connectors Description: Header Connector with 36 Positions and 01 Rows. Use the LABEL Attribute to label the pin on the schematic and PCB. You can remove the attributes on the PCB by using the SMASH function on the part and then deleting the text.
HOUSEPART: YES; MPN: MF-CON-2.54mm-01x36; GateName_1: G$1; SymbolName_1: CON_01X36; DeviceName: _PTH_2.54MM; POPULATE: 1; LibraryName: MF_Connectors; DeviceSetName: CON_01X36; URL: https://factory.macrofab.com/part/MF-CON-2.54mm-01x36
footprint PTH_2.54MM_01X36
pins: P$1 PIN1, P$2 PIN2, P$3 PIN3, P$4 PIN4, P$5 PIN5, P$6 PIN6, P$7 PIN7, P$8 PIN8, P$9 PIN9, P$10 PIN10, P$11 PIN11, P$12 PIN12, P$13 PIN13, P$14 PIN14, P$15 PIN15, P$16 PIN16, P$17 PIN17, P$18 PIN18, P$19 PIN19, P$20 PIN20, P$21 PIN21, P$22 PIN22, P$23 PIN23, P$24 PIN24, P$25 PIN25, P$26 PIN26, P$27 PIN27, P$28 PIN28, P$29 PIN29, P$30 PIN30, P$31 PIN31, P$32 PIN32, P$33 PIN33, P$34 PIN34, P$35 PIN35, P$36 PIN36

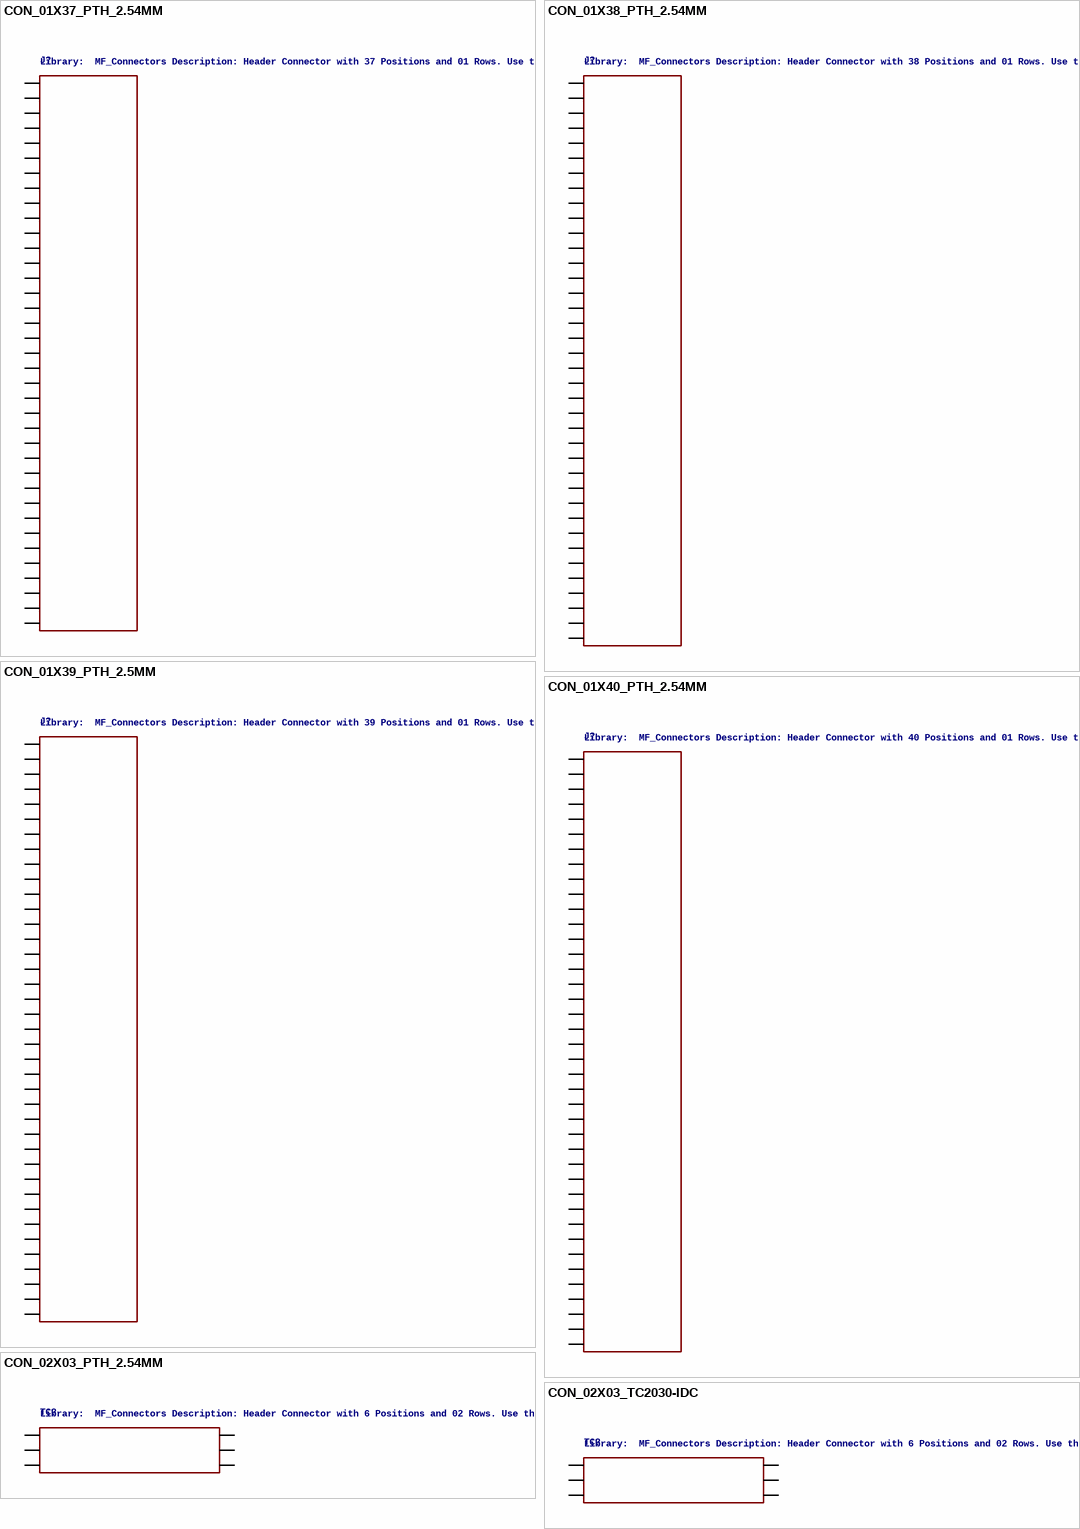
[diagram p5: symbols CON_01X37_PTH_2.54MM to CON_02X03_TC2030-IDC]

## CON_01X37_PTH_2.54MM
designator J?, comment Library:  MF_Connectors Description: Header Connector with 37 Positions and 01 Rows. Use the LABEL Attribute to label the pin on the schematic and PCB. You can remove the attributes on the PCB by using the SMASH function on the part and then deleting the text.
HOUSEPART: YES; MPN: MF-CON-2.54mm-01x37; GateName_1: G$1; SymbolName_1: CON_01X37; DeviceName: _PTH_2.54MM; POPULATE: 1; LibraryName: MF_Connectors; DeviceSetName: CON_01X37; URL: https://factory.macrofab.com/part/MF-CON-2.54mm-01x37
footprint PTH_2.54MM_01X37
pins: P$1 PIN1, P$2 PIN2, P$3 PIN3, P$4 PIN4, P$5 PIN5, P$6 PIN6, P$7 PIN7, P$8 PIN8, P$9 PIN9, P$10 PIN10, P$11 PIN11, P$12 PIN12, P$13 PIN13, P$14 PIN14, P$15 PIN15, P$16 PIN16, P$17 PIN17, P$18 PIN18, P$19 PIN19, P$20 PIN20, P$21 PIN21, P$22 PIN22, P$23 PIN23, P$24 PIN24, P$25 PIN25, P$26 PIN26, P$27 PIN27, P$28 PIN28, P$29 PIN29, P$30 PIN30, P$31 PIN31, P$32 PIN32, P$33 PIN33, P$34 PIN34, P$35 PIN35, P$36 PIN36, P$37 PIN37

## CON_01X38_PTH_2.54MM
designator J?, comment Library:  MF_Connectors Description: Header Connector with 38 Positions and 01 Rows. Use the LABEL Attribute to label the pin on the schematic and PCB. You can remove the attributes on the PCB by using the SMASH function on the part and then deleting the text.
HOUSEPART: YES; MPN: MF-CON-2.54mm-01x38; GateName_1: G$1; SymbolName_1: CON_01X38; DeviceName: _PTH_2.54MM; POPULATE: 1; LibraryName: MF_Connectors; DeviceSetName: CON_01X38; URL: https://factory.macrofab.com/part/MF-CON-2.54mm-01x38
footprint PTH_2.54MM_01X38
pins: P$1 PIN1, P$2 PIN2, P$3 PIN3, P$4 PIN4, P$5 PIN5, P$6 PIN6, P$7 PIN7, P$8 PIN8, P$9 PIN9, P$10 PIN10, P$11 PIN11, P$12 PIN12, P$13 PIN13, P$14 PIN14, P$15 PIN15, P$16 PIN16, P$17 PIN17, P$18 PIN18, P$19 PIN19, P$20 PIN20, P$21 PIN21, P$22 PIN22, P$23 PIN23, P$24 PIN24, P$25 PIN25, P$26 PIN26, P$27 PIN27, P$28 PIN28, P$29 PIN29, P$30 PIN30, P$31 PIN31, P$32 PIN32, P$33 PIN33, P$34 PIN34, P$35 PIN35, P$36 PIN36, P$37 PIN37, P$38 PIN38

## CON_01X39_PTH_2.5MM
designator J?, comment Library:  MF_Connectors Description: Header Connector with 39 Positions and 01 Rows. Use the LABEL Attribute to label the pin on the schematic and PCB. You can remove the attributes on the PCB by using the SMASH function on the part and then deleting the text.
HOUSEPART: YES; MPN: MF-CON-2.54mm-01x39; GateName_1: G$1; SymbolName_1: CON_01X39; DeviceName: _PTH_2.5MM; POPULATE: 1; LibraryName: MF_Connectors; DeviceSetName: CON_01X39; URL: https://factory.macrofab.com/part/MF-CON-2.54mm-01x39
footprint PTH_2.54MM_01X39
pins: P$1 PIN1, P$2 PIN2, P$3 PIN3, P$4 PIN4, P$5 PIN5, P$6 PIN6, P$7 PIN7, P$8 PIN8, P$9 PIN9, P$10 PIN10, P$11 PIN11, P$12 PIN12, P$13 PIN13, P$14 PIN14, P$15 PIN15, P$16 PIN16, P$17 PIN17, P$18 PIN18, P$19 PIN19, P$20 PIN20, P$21 PIN21, P$22 PIN22, P$23 PIN23, P$24 PIN24, P$25 PIN25, P$26 PIN26, P$27 PIN27, P$28 PIN28, P$29 PIN29, P$30 PIN30, P$31 PIN31, P$32 PIN32, P$33 PIN33, P$34 PIN34, P$35 PIN35, P$36 PIN36, P$37 PIN37, P$38 PIN38, P$39 PIN39

## CON_01X40_PTH_2.54MM
designator J?, comment Library:  MF_Connectors Description: Header Connector with 40 Positions and 01 Rows. Use the LABEL Attribute to label the pin on the schematic and PCB. You can remove the attributes on the PCB by using the SMASH function on the part and then deleting the text.
HOUSEPART: YES; MPN: MF-CON-2.54mm-01x40; GateName_1: G$1; SymbolName_1: CON_01X40; DeviceName: _PTH_2.54MM; POPULATE: 1; LibraryName: MF_Connectors; DeviceSetName: CON_01X40; URL: https://factory.macrofab.com/part/MF-CON-2.54mm-01x40
footprint PTH_2.54MM_01X40
pins: P$1 PIN1, P$2 PIN2, P$3 PIN3, P$4 PIN4, P$5 PIN5, P$6 PIN6, P$7 PIN7, P$8 PIN8, P$9 PIN9, P$10 PIN10, P$11 PIN11, P$12 PIN12, P$13 PIN13, P$14 PIN14, P$15 PIN15, P$16 PIN16, P$17 PIN17, P$18 PIN18, P$19 PIN19, P$20 PIN20, P$21 PIN21, P$22 PIN22, P$23 PIN23, P$24 PIN24, P$25 PIN25, P$26 PIN26, P$27 PIN27, P$28 PIN28, P$29 PIN29, P$30 PIN30, P$31 PIN31, P$32 PIN32, P$33 PIN33, P$34 PIN34, P$35 PIN35, P$36 PIN36, P$37 PIN37, P$38 PIN38, P$39 PIN39, P$40 PIN40

## CON_02X03_PTH_2.54MM
designator TC?, comment Library:  MF_Connectors Description: Header Connector with 6 Positions and 02 Rows. Use the LABEL Attribute to label the pin on the schematic and PCB. You can remove the attributes on the PCB by using the SMASH function on the part and then deleting the text.
HOUSEPART: YES; MPN: MF-CON-2.54mm-2x3; GateName_1: G$1; SymbolName_1: CON_02X03; DeviceName: _PTH_2.54MM; POPULATE: 1; LibraryName: MF_Connectors; DeviceSetName: CON_02X03; URL: https://factory.macrofab.com/part/MF-CON-2.54mm-2x3
footprint PTH_2.54MM_02X03
pins: P$1 PIN1, P$2 PIN2, P$3 PIN3, P$4 PIN4, P$5 PIN5, P$6 PIN6

## CON_02X03_TC2030-IDC
designator TC?, comment Library:  MF_Connectors Description: Header Connector with 6 Positions and 02 Rows. Use the LABEL Attribute to label the pin on the schematic and PCB. You can remove the attributes on the PCB by using the SMASH function on the part and then deleting the text.
HOUSEPART: NO; MPN: TC2030-IDC; MPN: TC2030-FTDI-TTL-232R; MPN: TC2030-PKT; GateName_1: G$1; SymbolName_1: CON_02X03; DeviceName: _TC2030-IDC; POPULATE: 0; LABEL01: MISO; LABEL02: VCC; LABEL03: SCK; LABEL04: MOSI; LABEL05: RST; LABEL06: GND; LABEL02: CTS/TMS; LABEL03: RX/TDI; LABEL04: TX/TCLK; LABEL06: RTS/TDO; LABEL01: !MCLR; LABEL02: VDD Target; LABEL04: PGD; LABEL05: PGC; LABEL06: PGM; LABEL03: C2CK; LABEL04: C2D; LABEL05: C2CK_PS; LABEL06: C2D_PS; LABEL03: SWDIO; LABEL04: SWCLK; LABEL05: MCU_VDD; LABEL06: !RST; LibraryName: MF_Connectors; DeviceSetName: CON_02X03; URL: http://www.tag-connect.com/TC2030-IDC; URL: http://www.tag-connect.com/AVRISP; LABEL01: VCC; LABEL05: GND; URL: http://www.tag-connect.com/TC2030-FTDI; LABEL03: GND; URL: http://www.tag-connect.com/TC2030-PKT; LABEL01: GND; LABEL02: GND
footprint TC2030-IDC-FP
pins: P$1 PIN1, P$2 PIN2, P$3 PIN3, P$4 PIN4, P$5 PIN5, P$6 PIN6

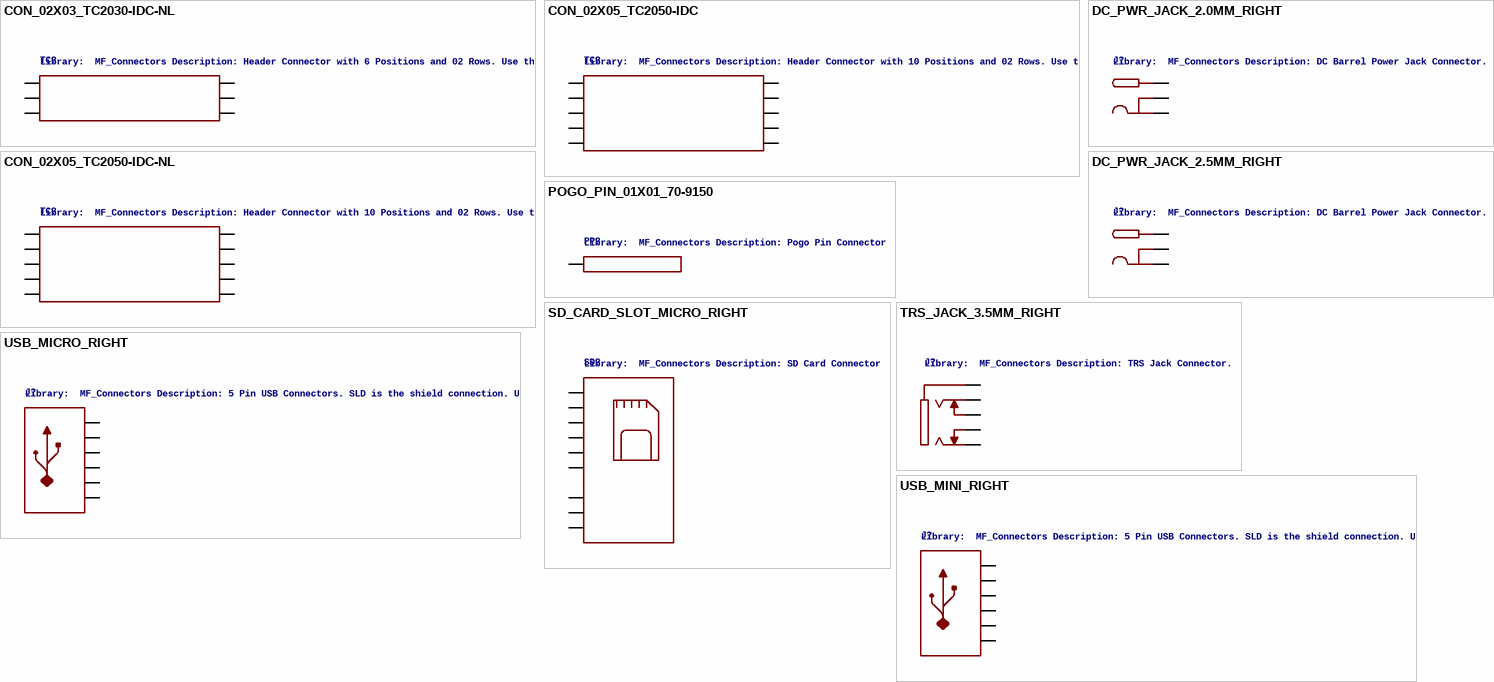
[diagram p6: symbols CON_02X03_TC2030-IDC-NL to USB_MINI_RIGHT]

## CON_02X03_TC2030-IDC-NL
designator TC?, comment Library:  MF_Connectors Description: Header Connector with 6 Positions and 02 Rows. Use the LABEL Attribute to label the pin on the schematic and PCB. You can remove the attributes on the PCB by using the SMASH function on the part and then deleting the text.
HOUSEPART: NO; MPN: TC2030-IDC-NL; MPN: TC2030-FTDI-TTL-232R-NL; MPN: TC2030-PKT-NL; GateName_1: G$1; SymbolName_1: CON_02X03; DeviceName: _TC2030-IDC-NL; POPULATE: 0; LABEL01: MISO; LABEL02: VCC; LABEL03: SCK; LABEL04: MOSI; LABEL05: RST; LABEL06: GND; LABEL02: CTS/TMS; LABEL03: RX/TDI; LABEL04: TX/TCLK; LABEL06: RTS/TDO; LABEL01: !MCLR; LABEL02: VDD Target; LABEL04: PGD; LABEL05: PGC; LABEL06: PGM; LABEL03: C2CK; LABEL04: C2D; LABEL05: C2CK_PS; LABEL06: C2D_PS; LABEL03: SWDIO; LABEL04: SWCLK; LABEL05: MCU_VDD; LABEL06: !RST; LibraryName: MF_Connectors; DeviceSetName: CON_02X03; URL: http://www.tag-connect.com/TC2030-IDC-NL; URL: http://www.tag-connect.com/AVRISP; LABEL01: VCC; LABEL05: GND; URL: http://www.tag-connect.com/TC2030-FTDI; LABEL03: GND; URL: http://www.tag-connect.com/TC2030-PKT-NL; LABEL01: GND; LABEL02: GND
footprint TC2030-IDC-NL
pins: P$1 PIN1, P$2 PIN2, P$3 PIN3, P$4 PIN4, P$5 PIN5, P$6 PIN6

## CON_02X05_TC2050-IDC
designator TC?, comment Library:  MF_Connectors Description: Header Connector with 10 Positions and 02 Rows. Use the LABEL Attribute to label the pin on the schematic and PCB. You can remove the attributes on the PCB by using the SMASH function on the part and then deleting the text.
HOUSEPART: NO; MPN: TC2050-IDC; GateName_1: G$1; SymbolName_1: CON_02X05; DeviceName: _TC2050-IDC; POPULATE: 0; LABEL01: TCK; LABEL02: GND; LABEL03: TDO; LABEL04: VCC(REF); LABEL05: TMS; LABEL06: !SRST; LABEL07: VSUPPLY; LABEL08: !TRST; LABEL09: TDI; LibraryName: MF_Connectors; DeviceSetName: CON_02X05; URL: http://www.tag-connect.com/Materials/TC2050-IDC%20Datasheet.pdf; LABEL10: GND; URL: http://www.tag-connect.com/byteblaster
footprint TC2050-IDC-FP
pins: P$1 PIN1, P$2 PIN2, P$3 PIN3, P$4 PIN4, P$5 PIN5, P$6 PIN6, P$7 PIN7, P$8 PIN8, P$9 PIN9, P$10 PIN10

## CON_02X05_TC2050-IDC-NL
designator TC?, comment Library:  MF_Connectors Description: Header Connector with 10 Positions and 02 Rows. Use the LABEL Attribute to label the pin on the schematic and PCB. You can remove the attributes on the PCB by using the SMASH function on the part and then deleting the text.
HOUSEPART: NO; MPN: TC2050-IDC-NL; GateName_1: G$1; SymbolName_1: CON_02X05; DeviceName: _TC2050-IDC-NL; POPULATE: 0; LABEL01: TCK; LABEL02: GND; LABEL03: TDO; LABEL04: VCC(REF); LABEL05: TMS; LABEL06: !SRST; LABEL07: Vsupply; LABEL08: !TRST; LABEL09: TDI; LibraryName: MF_Connectors; DeviceSetName: CON_02X05; URL: http://www.tag-connect.com/Materials/TC2050-IDC-NL%20Datasheet.pdf; LABEL10: GND; URL: http://www.tag-connect.com/byteblaster
footprint TC2050-IDC-NL
pins: P$1 PIN1, P$2 PIN2, P$3 PIN3, P$4 PIN4, P$5 PIN5, P$6 PIN6, P$7 PIN7, P$8 PIN8, P$9 PIN9, P$10 PIN10

## DC_PWR_JACK_2.0MM_RIGHT
designator J?, comment Library:  MF_Connectors Description: DC Barrel Power Jack Connector.
HOUSEPART: NO; MPN: KLDX-0202-A; GateName_1: G$1; SymbolName_1: DC_PWR_JACK; DeviceName: _2.0MM_RIGHT; POPULATE: 1; LibraryName: MF_Connectors; DeviceSetName: DC_PWR_JACK; URL: http://www.4uconnector.com/online/object/4udrawing/18741.pdf
footprint DC_PWR_JACK
pins: PIN (power), SLEEVE1 SLEEVE (power), SLEEVE2 SLEEVE_SHUNT (power)

## DC_PWR_JACK_2.5MM_RIGHT
designator J?, comment Library:  MF_Connectors Description: DC Barrel Power Jack Connector.
HOUSEPART: NO; MPN: KLDX-0202-B; GateName_1: G$1; SymbolName_1: DC_PWR_JACK; DeviceName: _2.5MM_RIGHT; POPULATE: 1; LibraryName: MF_Connectors; DeviceSetName: DC_PWR_JACK; URL: http://www.4uconnector.com/online/object/4udrawing/18741.pdf
footprint DC_PWR_JACK
pins: PIN (power), SLEEVE1 SLEEVE (power), SLEEVE2 SLEEVE_SHUNT (power)

## POGO_PIN_01X01_70-9150
designator PP?, comment Library:  MF_Connectors Description: Pogo Pin Connector
HOUSEPART: NO; GateName_1: G$1; SymbolName_1: CON_01X01; DeviceName: _70-9150; DeviceSetName: POGO_PIN_01X01; POPULATE: 1; LibraryName: MF_Connectors; URL: http://www.avx.com/products/connectors/board-to-board/pogo-pin-single-contact-70-9150/f
footprint POGO_PIN_70-9150
pins: P$1 PIN1

## SD_CARD_SLOT_MICRO_RIGHT
designator SD?, comment Library:  MF_Connectors Description: SD Card Connector
HOUSEPART: YES; MPN: MF-MICROSD; GateName_1: G$1; SymbolName_1: SD_CARD; DeviceName: _MICRO_RIGHT; DeviceSetName: SD_CARD_SLOT; POPULATE: 1; LibraryName: MF_Connectors; URL: https://factory.macrofab.com/part/MF-MICROSD
footprint MF-MICROSD
pins: G0 G1 PIN6 GND (power), PIN1 RW, PIN2 CS, PIN3 DI, PIN4 3.3V (power), PIN5 SCLK, PIN7 D0, PIN8 IRQ, PIN9 PIN10 CRD_DTCT

## TRS_JACK_3.5MM_RIGHT
designator J?, comment Library:  MF_Connectors Description: TRS Jack Connector.
HOUSEPART: NO; GateName_1: G$1; SymbolName_1: TRS_JACK; DeviceName: _3.5MM_RIGHT; POPULATE: 1; LibraryName: MF_Connectors; DeviceSetName: TRS_JACK; URL: http://www.4uconnector.com/online/object/4udrawing/13366.pdf
footprint TRS_3.5MM
pins: 1, 2, 3, 4, 5

## USB_MICRO_RIGHT
designator J?, comment Library:  MF_Connectors Description: 5 Pin USB Connectors. SLD is the shield connection. Usually tied to ground through a small ferrite bead.
HOUSEPART: YES; MPN: MF-CON-MICROUSB-RIGHT; GateName_1: G$1; SymbolName_1: USB_5PIN; DeviceName: _MICRO_RIGHT; POPULATE: 1; LibraryName: MF_Connectors; DeviceSetName: USB; URL: https://factory.macrofab.com/part/MF-CON-MICROUSB-RIGHT
footprint MICROUSB-RIGHT
pins: 1 5V (power), 2 D-, 3 D+, 4 ID, 5 GND (power), S1 S2 S3 S4 S5 S6 SLD (power)

## USB_MINI_RIGHT
designator J?, comment Library:  MF_Connectors Description: 5 Pin USB Connectors. SLD is the shield connection. Usually tied to ground through a small ferrite bead.
HUOSEPART: NO; GateName_1: G$1; SymbolName_1: USB_5PIN; DeviceName: _MINI_RIGHT; POPULATE: 1; LibraryName: MF_Connectors; DeviceSetName: USB; URL: http://www.4uconnector.com/online/object/4udrawing/20236.pdf
footprint MINIUSB-RIGHT
pins: 1 5V (power), 2 D-, 3 D+, 4 ID, 5 GND (power), S1 S2 S3 S4 SLD (power)